# Altium footprint library Buzzer.PcbLib: 3 footprints
Each footprint in its own frame and in the unit in brackets; x right, y up, seen from the top. Pads: shape width x height; smd on the part's side, far side on the other; paste and mask are expansions set on the pad; w line width, h text height; cw(c..) or ccw(c..) is an arc to the next point about the centre after c.
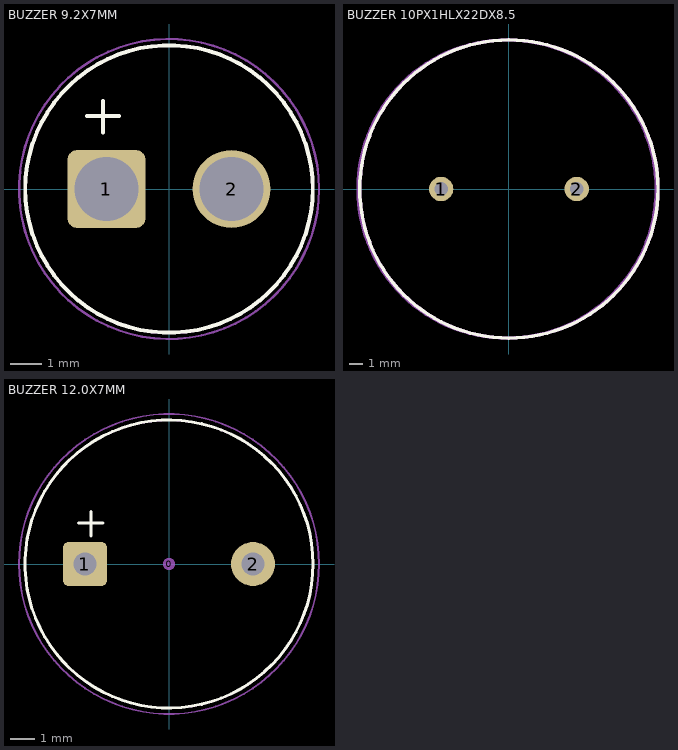
[diagram p0: the footprints below, top view; thin cyan lines are the x and y axes]

## BUZZER 9.2X7MM [mm]
height 8
pads (2):
  rrect25% 2.5x2.5 hole 2.05: 1(-2,0)
  round 2.5 hole 2.05: 2(2,0)
Top Overlay:
  circle w0.127: c0,0 r4.6
  lines w0.127: -2.623,2.335 -1.607,2.335 ; -2.109,1.8 -2.109,2.816
Mechanical 13:
  circle w0.076: c0.003,-0.012 r4.6
Mechanical 14:
  circle w0.076: c0,0 r4.8
3D body "WT-0904T.step": height 4, standoff -4.5, extent -4.597,-4.588 4.597,4.6

## BUZZER 10PX1HLX22DX8.5 [mm] "Standard Radial, 10mm pin space, 1mm Hole, 22mm diametre, 8.5mm height"
height 8.5
pads (2):
  round 1.8 hole 1: 1(-5,0) 2(5,0)
Top Overlay:
  circle w0.254: c0,0 r11
Mechanical 13:
  circle w0.254: c0,0 r11
Mechanical 15:
  circle w0.254: c-0.127,0 r11
3D body "BuzzerAC.STEP": height 8.2, standoff -2.5, extent -11.043,-11.071 10.957,10.929

## BUZZER 12.0X7MM [mil]
height 314.96
pads (3):
  round 20 on Mech14: 0(0,0)
  rrect25% 72x72 / inner rrect25% 72x72 / far side rrect25% 90x90 hole 38: 1(-137.8,0)
  round 72 / inner round 72 / far side round 90 hole 38: 2(137.8,0)
Top Overlay:
  circle w5: c0,0 r236.22
  lines w5: -148.27,66.93 -108.27,66.93 ; -128.02,45.87 -128.02,85.87
Mechanical 13:
  circle w3: c0.14,-0.47 r236.22
Mechanical 14:
  circle w3: c0,0 r246.06
3D body "3100-xxx speaker 8.5mm.STEP": height 354.33, standoff -110.24, extent -246.02,-246.04 246.07,246.06
3D body "TH pad - 28 pin x 90.STEP": height 50, standoff 0, extent 83.31,-44.9 172.96,44.92
3D body "TH pad - 28 pin x 90.STEP": height 50, standoff 0, extent -172.59,-44.91 -82.95,44.92